# Altium integrated library intersil-techwell.IntLib: 1 symbol
Pins are listed as number, name and electrical type; pins without a type are passive.

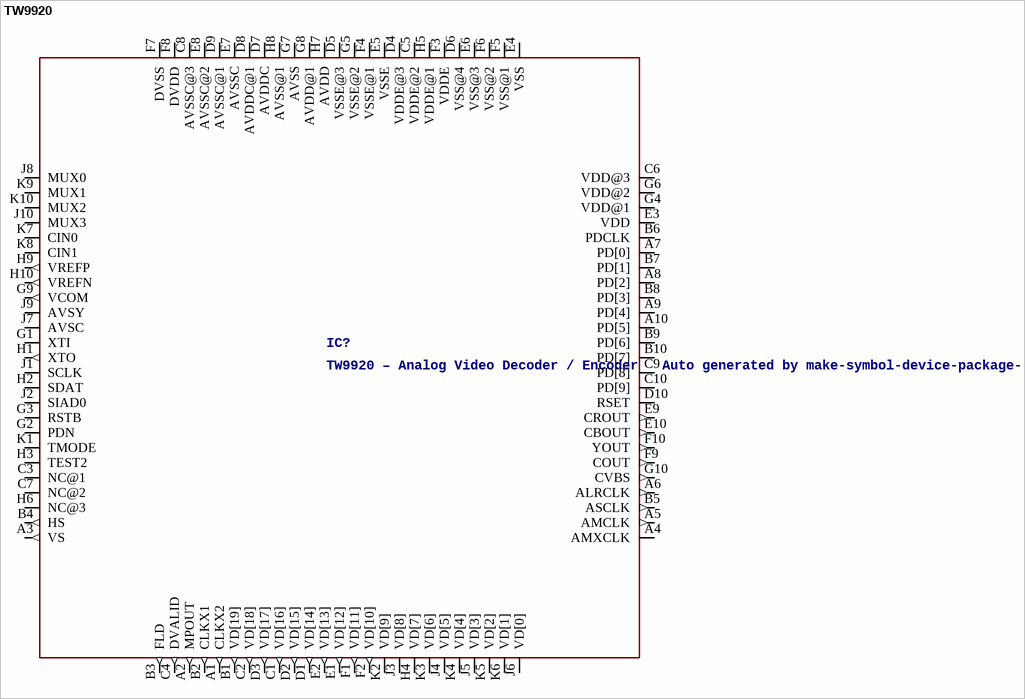
[diagram p0: symbol TW9920]

## TW9920
designator IC?, comment TW9920 – Analog Video Decoder / Encoder   Auto generated by make-symbol-device-package-bsdl.ulp Rev. 43 Source: www.intersil.com / TW9920_FN7775.pdf
footprint VFBGA100L-8X8
pins: A1 CLKX2 (out), A2 MPOUT (out), A3 VS (out), A4 AMXCLK, A5 AMCLK (out), A6 ALRCLK (out), A7 PD[0], A8 PD[2], A9 PD[4], A10 PD[5], B1 VD[19] (out), B2 CLKX1 (out), B3 FLD (out), B4 HS (out), B5 ASCLK (out), B6 PDCLK, B7 PD[1], B8 PD[3], B9 PD[6], B10 PD[7], C1 VD[16] (out), C2 VD[18] (out), C3 NC@1, C4 DVALID (out), C5 VDDE@2 (power), C6 VDD@3 (power), C7 NC@2, C8 AVSSC@3 (power), C9 PD[8], C10 PD[9], D1 VD[14] (out), D2 VD[15] (out), D3 VD[17] (out), D4 VDDE@3 (power), D5 VSSE@3 (power), D6 VSS@4 (power), D7 AVDDC (power), D8 AVDDC@1 (power), D9 AVSSC@1 (power), D10 RSET, E1 VD[12] (out), E2 VD[13] (out), E3 VDD (power), E4 VSS (power), E5 VSSE (power), E6 VSS@3 (power), E7 AVSSC (power), E8 AVSSC@2 (power), E9 CROUT (out), E10 CBOUT (out), F1 VD[11] (out), F2 VD[10] (out), F3 VDDE (power), F4 VSSE@1 (power), F5 VSS@1 (power), F6 VSS@2 (power), F7 DVSS (power), F8 DVDD (power), F9 COUT (out), F10 YOUT (out), G1 XTI, G2 PDN, G3 RSTB, G4 VDD@1 (power), G5 VSSE@2 (power), G6 VDD@2 (power), G7 AVSS (power), G8 AVDD@1 (power), G9 VCOM (out), G10 CVBS (out), H1 XTO (out), H2 SDAT, H3 TEST2, H4 VD[7], H5 VDDE@1 (power), H6 NC@3, H7 AVDD (power), H8 AVSS@1 (power), H9 VREFP (out), H10 VREFN (out), J1 SCLK, J2 SIAD0, J3 VD[8], J4 VD[5], J5 VD[3], J6 VD[0], J7 AVSC, J8 MUX0, J9 AVSY, J10 MUX3, K1 TMODE, K2 VD[9], K3 VD[6], K4 VD[4], K5 VD[2], K6 VD[1], K7 CIN0, K8 CIN1, K9 MUX1, K10 MUX2